# EAGLE library part 750343576 (library WE-POE++)
WE-PoE++ Power over Ethernet Plus Plus Transformer Characteristics Suitable for CCM Flyback or Active Clamp Forward Different power levels up to 95W Frequency range: 250-400 kHz Different output voltages available Custom designs available Applications Telecom IndustrialApplications WLAN Access Point Safety cameras Intelligent LED Lighting Networks Details see: www.we-online.com/en/components/products/WE-POE-PLUS-PLUS Created by Ella 2024-01-30 2024(C) Würth Elektronik
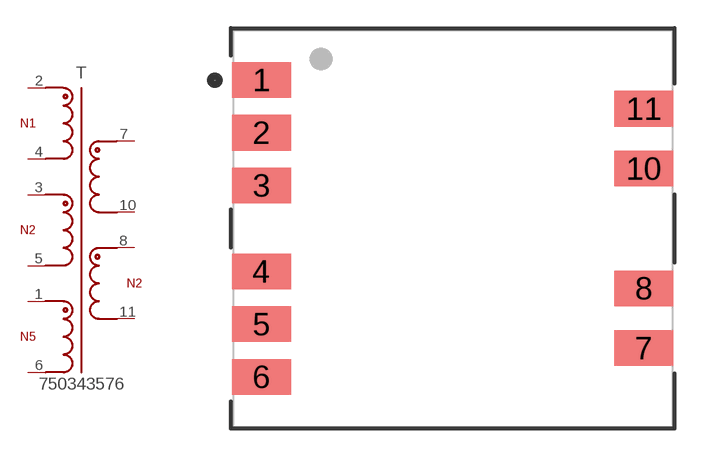
[diagram p0: symbol with the pads of WE-POE++_ER19_L23.37W21.08H10.5; footprint WE-POE++_ER19_L23.37W21.08H10.5]

Designator prefix T

## 750343576 (DATASHEET: https://www.we-online.com/redexpert/spec/750343576?ae; HEIGHT: 10.5mm; IO1: 3A; L: 100uH; LENGTH: 21.08mm; MOUNT: SMT; PART-NUMBER: 750343576; SIZE: ER19/4.8/15; TURNS-RATIO: 4:4:4:4:4; VALUE: 100uH; VAUX: 12V; VERSION: Forward; VIN: 40 - 57 V (DC); VO1: 24V; VT: 1500VAC; WIDTH: 23.37mm)  [WE-POE++_ER19_L23.37W21.08H10.5]
1  1  pas
2  2  pas
3  3  pas
4  4  pas
5  5  pas
6  6  pas
7  7  pas
8  8  pas
10  10  pas
11  11  pas

## Footprint WE-POE++_ER19_L23.37W21.08H10.5 (pad centres in mm)
WE-PoE++ Power over Ethernet Plus Plus Transformer Size: ER19/4.8/15, SMT, 10Pins LXWXH=23.37X21.08X10.5mm
smd 3.13 x 1.89: 1 -10.165,7.885; 2 -10.165,5.085; 3 -10.165,2.285; 4 -10.165,-2.285; 5 -10.165,-5.085; 6 -10.165,-7.885; 7 10.165,-6.36; 8 10.165,-3.18; 10 10.165,3.18; 11 10.165,6.36